# EAGLE library part JST-XH-16 (library con-JST-XH)
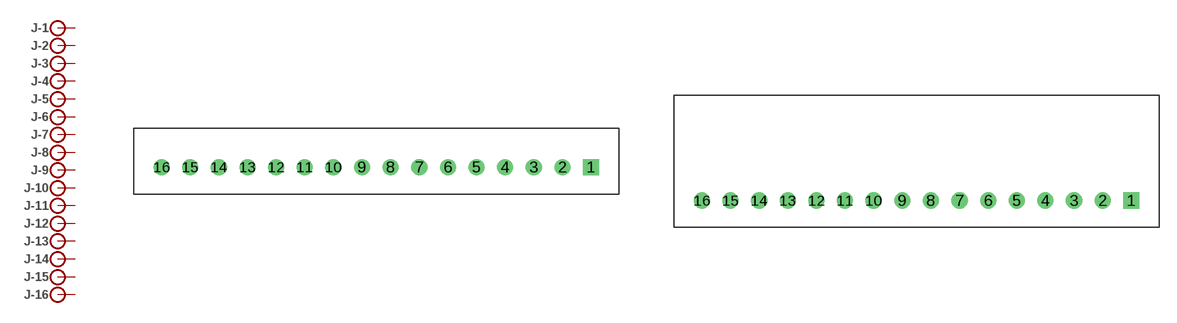
[diagram p7: symbol with the pads of B16B-XH-A; footprints B16B-XH-A, S16B-XH-A]

Designator prefix J; gates -1=PIN -2=PIN -3=PIN -4=PIN -5=PIN -6=PIN -7=PIN -8=PIN -9=PIN -10=PIN -11=PIN -12=PIN -13=PIN -14=PIN -15=PIN -16=PIN

## JST-XH-16-TH (MF: JST; MPN: B16B-XH-A)  [B16B-XH-A]
1  -1:P
2  -2:P
3  -3:P
4  -4:P
5  -5:P
6  -6:P
7  -7:P
8  -8:P
9  -9:P
10  -10:P
11  -11:P
12  -12:P
13  -13:P
14  -14:P
15  -15:P
16  -16:P

## JST-XH-16-RA (MF: JST; MPN: S16B-XH-A)  [S16B-XH-A]
Pads as for B16B-XH-A

## Footprint B16B-XH-A (pad centres in mm)
JST-XH (2.5mm) 14-pin through-hole vertical Wire-Board Connector
drill 0.9 square: 1 18.75,0
drill 0.9: 2 16.25,0; 3 13.75,0; 4 11.25,0; 5 8.75,0; 6 6.25,0; 7 3.75,0; 8 1.25,0; 9 -1.25,0; 10 -3.75,0; 11 -6.25,0; 12 -8.75,0; 13 -11.25,0; 14 -13.75,0; 15 -16.25,0; 16 -18.75,0

## Footprint S16B-XH-A (pad centres in mm)
JST-XH (2.5mm) 14-pin through-hole vertical Wire-Board Connector
drill 0.9 square: 1 18.75,0
drill 0.9: 2 16.25,0; 3 13.75,0; 4 11.25,0; 5 8.75,0; 6 6.25,0; 7 3.75,0; 8 1.25,0; 9 -1.25,0; 10 -3.75,0; 11 -6.25,0; 12 -8.75,0; 13 -11.25,0; 14 -13.75,0; 15 -16.25,0; 16 -18.75,0